# Altium schematic symbol library 移位寄存器.SchLib: 1 symbol
Pins are listed as number, name and electrical type; pins without a type are passive.

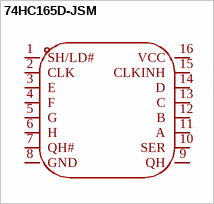
[diagram p0: symbol 74HC165D-JSM]

## 74HC165D-JSM
designator U??  (value not drawn)
Manufacturer: JSMSEMI(杰盛微); Add into BOM: yes; Function: 并行或串行; Supply Voltage: 2V~6V; Number of Elements: 1; Number of Bits per Element: 8; Symbol: 74HC165D-JSM; Device: 74HC165D-JSM; LCSC Part Name: 74HC165D-JSM; Supplier Part: C22447130; Manufacturer Part: 74HC165D-JSM; Supplier Footprint: SOP-16; JLCPCB Part Class: Extended Part; Datasheet: https://atta.szlcsc.com/upload/public/pdf/source/20240716/3BCDED5764C4B39E28DFA970EEB44471.pdf; Supplier: LCSC; Convert to PCB: yes; Series: 74HC; Operating Temperature: -40℃~+125℃
footprint SOP-16_L10.0-W3.9-P1.27-LS6.0-BL
pins: 1 SH/LD#, 2 CLK, 3 E, 4 F, 5 G, 6 H, 7 QH#, 8 GND, 9 QH, 10 SER, 11 A, 12 B, 13 C, 14 D, 15 CLKINH, 16 VCC